# Altium footprint library стабилизаторы импульсные.PcbLib: 45 footprints (part 1 of 3)
Each footprint in its own frame and in the unit in brackets; x right, y up, seen from the top. Pads: shape width x height; smd on the part's side, far side on the other; paste and mask are expansions set on the pad; w line width, h text height; cw(c..) or ccw(c..) is an arc to the next point about the centre after c.
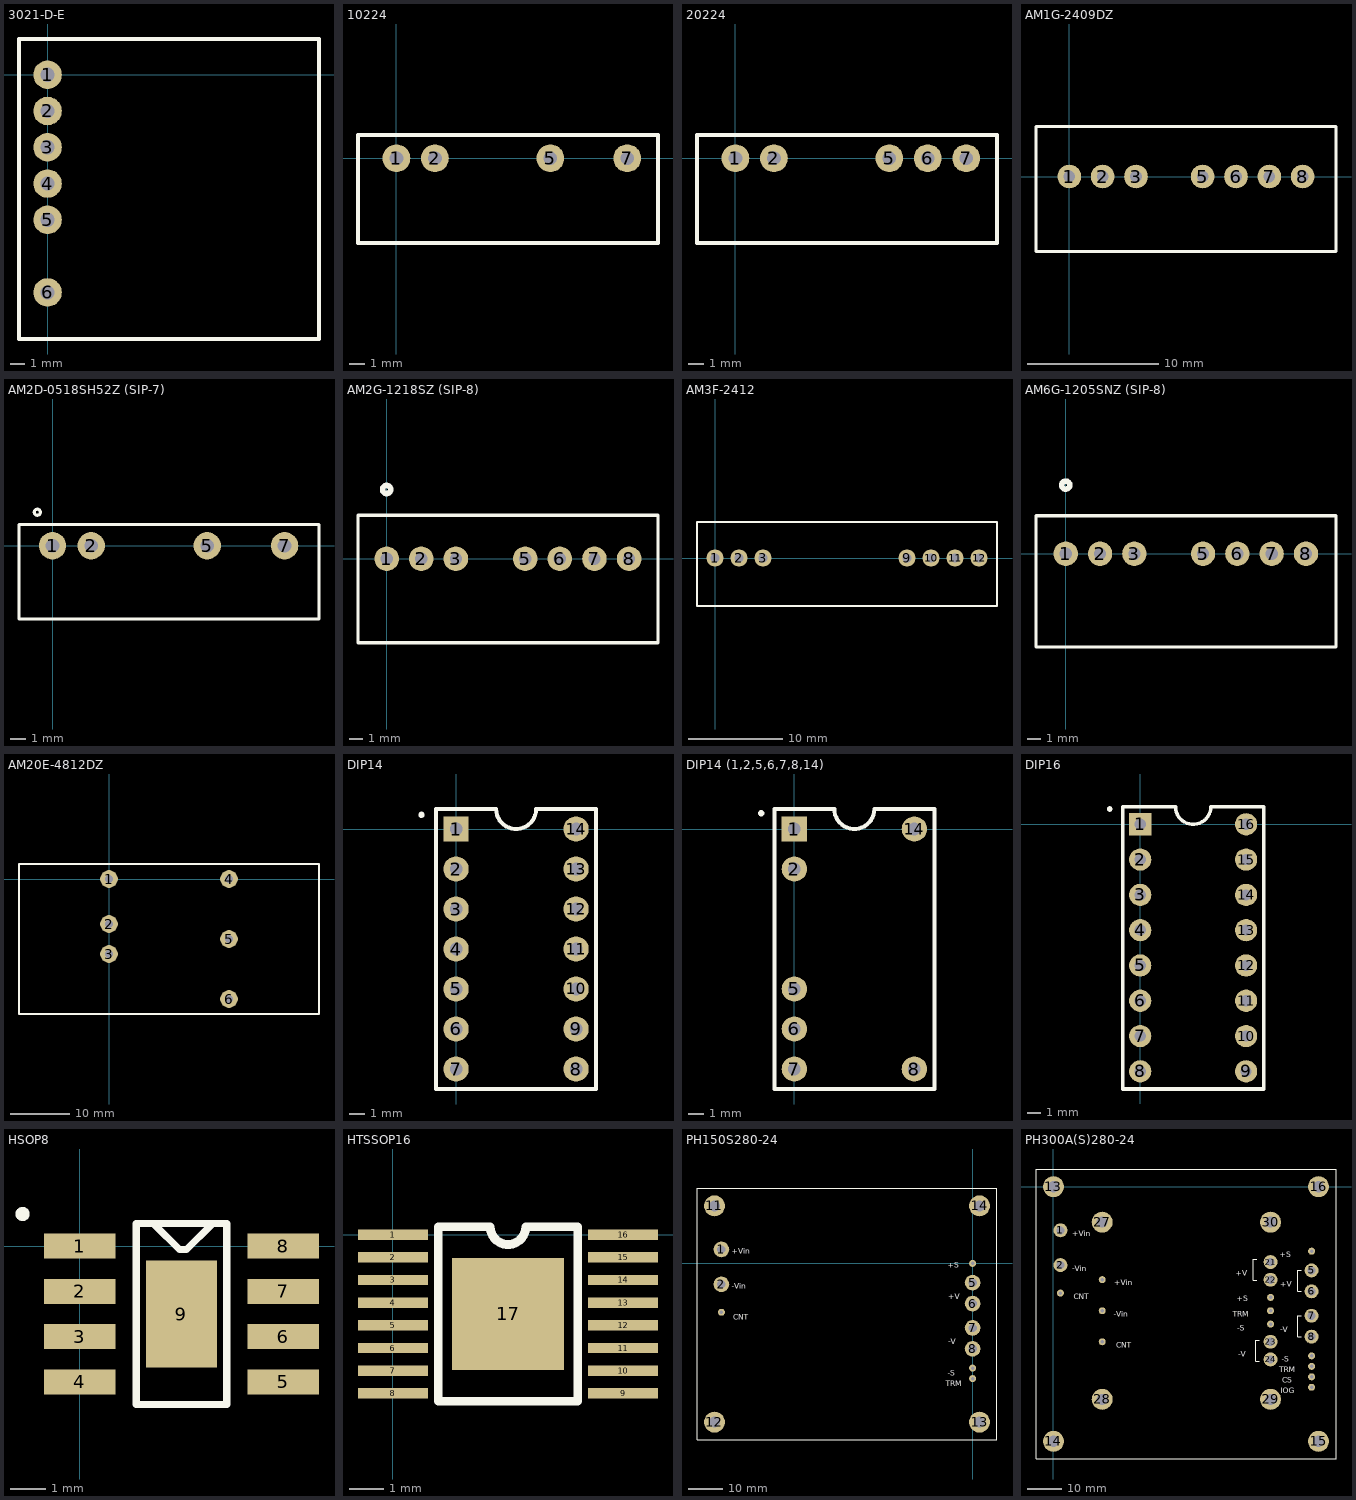
[diagram p0: the footprints below, top view; thin cyan lines are the x and y axes]

## 3021-D-E [mm]
pads (6):
  round 2 hole 1: 1(0,0) 2(0,-2.54) 3(0,-5.08) 4(0,-7.62) 5(0,-10.16) 6(0,-15.24)
Top Overlay:
  lines w0.254: -2,-18.5 -2,2.5 19,2.5 19,-18.5 -2,-18.5

## 10224 [mm]
pads (4):
  round 1.8 hole 0.9: 1(0,0) 2(2.5,0) 5(10,0) 7(15,0)
Top Overlay:
  lines w0.254: -2.5,-5.5 17,-5.5 17,1.5 -2.5,1.5 -2.5,-5.5

## 20224 [mm]
pads (5):
  round 1.8 hole 0.9: 1(0,0) 2(2.5,0) 5(10,0) 6(12.5,0) 7(15,0)
Top Overlay:
  lines w0.254: -2.5,-5.5 17,-5.5 17,1.5 -2.5,1.5 -2.5,-5.5

## AM1G-2409DZ [mm]
pads (7):
  round 1.8 hole 0.9: 1(0,0) 2(2.54,0) 3(5.08,0) 5(10.16,0) 6(12.7,0) 7(15.24,0) 8(17.78,0)
Top Overlay:
  lines w0.254: -2.54,-5.715 20.32,-5.715 20.32,3.81 -2.54,3.81 -2.54,-5.715

## AM2D-0518SH52Z (SIP-7) [mm]
height 10
pads (4):
  round 1.8 hole 0.9: 1(0,0) 2(2.54,0) 5(10.16,0) 7(15.24,0)
Top Overlay:
  circle w0.2: c-1,2.2 r0.2
  lines w0.2: -2.2,-4.8 17.5,-4.8 17.5,1.4 -2.2,1.4 -2.2,-4.8
3D body "User Library-SIP-4(7)_A6.SLDPRT": height 10.17, standoff -2.24, extent -1.975,-4.745 17.325,1.345

## AM2G-1218SZ (SIP-8) [mm]
height 11.1
pads (7):
  round 1.8 hole 0.9: 1(0,0) 2(2.54,0) 3(5.08,0) 5(10.16,0) 6(12.7,0) 7(15.24,0) 8(17.78,0)
Top Overlay:
  circle w0.4: c0,5.08 r0.3
  lines w0.254: -2.1,-6.15 19.9,-6.15 19.9,3.2 -2.1,3.2 -2.1,-6.15
3D body "tmr_6-2410wi.SLDPRT": height 4.1, standoff -11.1, extent -2,-6 19.8,3.2

## AM3F-2412 [mm]
pads (7):
  round 1.8 hole 0.9: 1(0,0) 2(2.54,0) 3(5.08,0) 9(20.32,0) 10(22.86,0) 11(25.4,0) 12(27.94,0)
Top Overlay:
  lines w0.254: -1.905,-5.08 -1.905,3.81 29.845,3.81 29.845,-5.08 -1.905,-5.08
3D body "User Library-SIP12_Proton.SLDPRT": height 16.75, standoff -3.25, extent -1.5,-2 29.5,2

## AM6G-1205SNZ (SIP-8) [mm]
height 12
pads (7):
  round 1.8 hole 0.9: 1(0,0) 2(2.54,0) 3(5.08,0) 5(10.16,0) 6(12.7,0) 7(15.24,0) 8(17.78,0)
Top Overlay:
  circle w0.4: c0,5.08 r0.3
  lines w0.254: -2.2,-6.9 -2.2,2.8 20,2.8 20,-6.9 -2.2,-6.9
3D body "tmr_3-4810wie.SLDPRT": height 11.1, standoff -3.2, extent -1.999,-6.7 19.799,2.598

## AM20E-4812DZ [mm]
pads (6):
  round 3 hole 1.3: 1(0,0) 2(0,-7.62) 3(0,-12.7) 4(20.32,0) 5(20.32,-10.16) 6(20.32,-20.32)
Top Overlay:
  lines w0.3: -15.24,-22.86 35.56,-22.86 35.56,2.54 -15.24,2.54 -15.24,-22.86

## DIP14 [mm]
pads (14):
  rect 1.6x1.6 hole 0.8: 1(0,0)
  round 1.6 hole 0.8: 2(0,-2.54) 3(0,-5.08) 4(0,-7.62) 5(0,-10.16) 6(0,-12.7) 7(0,-15.24) 8(7.62,-15.24) 9(7.62,-12.7) 10(7.62,-10.16) 11(7.62,-7.62) 12(7.62,-5.08) 13(7.62,-2.54) 14(7.62,0)
Top Overlay:
  circle w0.2: c-2.2,0.9 r0.1
  lines w0.254: -1.27,-16.51 -1.27,1.27 2.54,1.27 ccw(c3.81,1.27) 5.08,1.27 8.89,1.27 8.89,-16.51 -1.27,-16.51
3D body "User Library-DIP14_Pins Narrow_1.sldprt": height 2.58, standoff -3.81, extent -0.057,-15.99 1.143,-14.49
3D body "User Library-DIP14_Pins Narrow_1.sldprt": height 2.58, standoff -3.81, extent -0.057,-3.29 1.143,-1.79
3D body "User Library-DIP14_Pins Narrow_1.sldprt": height 2.58, standoff -3.81, extent -0.057,-0.75 1.143,0.75
3D body "User Library-DIP14_K_X_F6rper DIP14-DIP16_1.sldprt": height 4.57, standoff 0.38, extent 0.51,-17.335 7.11,2.095
3D body "User Library-DIP14_Pins Narrow_1.sldprt": height 2.58, standoff -3.81, extent -0.057,-5.83 1.143,-4.33
3D body "User Library-DIP14_Pins Narrow_1.sldprt": height 2.58, standoff -3.81, extent -0.057,-8.37 1.143,-6.87
3D body "User Library-DIP14_Pins Narrow_1.sldprt": height 2.58, standoff -3.81, extent -0.057,-10.91 1.143,-9.41
3D body "User Library-DIP14_Pins Narrow_1.sldprt": height 2.58, standoff -3.81, extent -0.057,-13.45 1.143,-11.95
3D body "User Library-DIP14_Pins Narrow_1.sldprt": height 2.58, standoff -3.81, extent 6.512,-0.738 7.712,0.762
3D body "User Library-DIP14_Pins Narrow_1.sldprt": height 2.58, standoff -3.81, extent 6.512,-3.278 7.712,-1.778
3D body "User Library-DIP14_Pins Narrow_1.sldprt": height 2.58, standoff -3.81, extent 6.512,-5.818 7.712,-4.318
3D body "User Library-DIP14_Pins Narrow_1.sldprt": height 2.58, standoff -3.81, extent 6.512,-8.358 7.712,-6.858
3D body "User Library-DIP14_Pins Narrow_1.sldprt": height 2.58, standoff -3.81, extent 6.512,-10.898 7.712,-9.398
3D body "User Library-DIP14_Pins Narrow_1.sldprt": height 2.58, standoff -3.81, extent 6.512,-13.438 7.712,-11.938
3D body "User Library-DIP14_Pins Narrow_1.sldprt": height 2.58, standoff -3.81, extent 6.512,-15.978 7.712,-14.478

## DIP14 (1,2,5,6,7,8,14) [mm] "DIP14, выводы 1,2,5,6,7,8,14"
pads (7):
  rect 1.6x1.6 hole 0.8: 1(0,0)
  round 1.6 hole 0.8: 2(0,-2.54) 5(0,-10.16) 6(0,-12.7) 7(0,-15.24) 8(7.62,-15.24) 14(7.62,0)
Top Overlay:
  circle w0.2: c-2.1,1 r0.1
  lines w0.254: -1.27,-16.51 -1.27,1.27 2.54,1.27 ccw(c3.81,1.27) 5.08,1.27 8.89,1.27 8.89,-16.51 -1.27,-16.51
3D body "User Library-DIP14_Pins Narrow_1.sldprt": height 2.58, standoff -3.81, extent -0.057,-15.99 1.143,-14.49
3D body "User Library-DIP14_Pins Narrow_1.sldprt": height 2.58, standoff -3.81, extent -0.057,-3.29 1.143,-1.79
3D body "User Library-DIP14_Pins Narrow_1.sldprt": height 2.58, standoff -3.81, extent -0.057,-0.75 1.143,0.75
3D body "User Library-DIP14_K_X_F6rper DIP14-DIP16_1.sldprt": height 4.57, standoff 0.38, extent 0.51,-17.335 7.11,2.095
3D body "User Library-DIP14_Pins Narrow_1.sldprt": height 2.58, standoff -3.81, extent -0.057,-10.91 1.143,-9.41
3D body "User Library-DIP14_Pins Narrow_1.sldprt": height 2.58, standoff -3.81, extent -0.057,-13.45 1.143,-11.95
3D body "User Library-DIP14_Pins Narrow_1.sldprt": height 2.58, standoff -3.81, extent 6.512,-0.738 7.712,0.762
3D body "User Library-DIP14_Pins Narrow_1.sldprt": height 2.58, standoff -3.81, extent 6.512,-15.978 7.712,-14.478

## DIP16 [mm]
pads (16):
  rect 1.6x1.6 hole 0.8: 1(0,0)
  round 1.6 hole 0.8: 2(0,-2.54) 3(0,-5.08) 4(0,-7.62) 5(0,-10.16) 6(0,-12.7) 7(0,-15.24) 8(0,-17.78) 9(7.62,-17.78) 10(7.62,-15.24) 11(7.62,-12.7) 12(7.62,-10.16) 13(7.62,-7.62) 14(7.62,-5.08) 15(7.62,-2.54) 16(7.62,0)
Top Overlay:
  circle w0.2: c-2.2,1.1 r0.1
  lines w0.254: -1.27,-19.05 8.89,-19.05 8.89,1.27 5.08,1.27 cw(c3.81,1.27) 2.54,1.27 -1.27,1.27 -1.27,-19.05

## HSOP8 [mm]
pads (9):
  rect 2x0.7 smd mask+0.025: 1(0,0) 2(0,-1.27) 3(0,-2.54) 4(0,-3.81) 5(5.715,-3.81) 6(5.715,-2.54) 7(5.715,-1.27) 8(5.715,0)
  rect 2x3 smd mask+0.025: 9(2.857,-1.905)
Top Overlay:
  circle w0.2: c-1.6,0.9 r0.1
  lines w0.2: 2.1,0.6 2.8,-0.1 3,-0.1 3.7,0.6 ; 1.587,-4.445 1.587,0.635 4.127,0.635 4.127,-4.445 1.587,-4.445
3D body "User Library-HSOP-8-DDA.SLDPRT": height 1.7, standoff 0, extent -0.139,-4.246 5.889,0.446

## HTSSOP16 [mm]
pads (17):
  rect 2x0.3 smd: 1(0,0) 2(0,-0.65) 3(0,-1.3) 4(0,-1.95) 5(0,-2.6) 6(0,-3.25) 7(0,-3.9) 8(0,-4.55) 9(6.6,-4.55) 10(6.6,-3.9) 11(6.6,-3.25) 12(6.6,-2.6) 13(6.6,-1.95) 14(6.6,-1.3) 15(6.6,-0.65) 16(6.6,0)
  rect 3.2x3.2 smd: 17(3.3,-2.275)
Top Overlay:
  lines w0.254: 1.3,-4.775 5.3,-4.775 5.3,0.225 3.808,0.225 cw(c3.3,0.225) 2.792,0.225 1.3,0.225 1.3,-4.775

## PH150S280-24 [mm]
pads (14):
  round 4.5 hole 2.4: 1(-72,4) 2(-72,-6) 5(0,-5.5) 6(0,-11.5) 7(0,-18.5) 8(0,-24.5)
  round 2 hole 1: 3(-72,-14) 4(0,0) 9(0,-30) 10(0,-33)
  round 6 hole 3.2: 11(-74,16.5) 12(-74,-45.5) 13(2,-45.5) 14(2,16.5)
Top Overlay:
  lines w0.3: -79,-50.5 7,-50.5 7,21.5 -79,21.5 -79,-50.5
  text "+S" at -7.111,-1.215 h1.59
  text "+V" at -7.032,-10.215 h1.59
  text "-V" at -7.032,-23.215 h1.59
  text "-S" at -7.111,-32.214 h1.59
  text "CNT" at -68.627,-16.214 h1.59
  text "TRM" at -7.707,-35.214 h1.59
  text "+Vin" at -69.104,2.786 h1.59
  text "-Vin" at -69.104,-7.214 h1.59

## PH300A(S)280-24 [mm]
pads (30):
  round 4 hole 2.3: 1(1.985,-12.488) 2(1.985,-22.49) 5(74,-23.99) 6(74,-29.991) 7(74,-36.993) 8(74,-42.994) 21(62.23,-21.59) 22(62.23,-26.67) 23(62.23,-44.45) 24(62.23,-49.53)
  round 2 hole 1: 3(1.985,-30.492) 4(74,-18.489) 9(74,-48.495) 10(74,-51.496) 11(74,-54.496) 12(74,-57.497) 17(13.97,-26.66) 18(13.97,-35.56) 19(13.97,-44.46) 20(62.23,-31.75) 25(62.23,-39.37) 26(62.23,-35.56)
  round 6 hole 3.2: 13(-0.015,0.015) 14(-0.015,-73) 15(76,-73) 16(76,0.015) 27(13.95,-10.16) 28(13.95,-60.96) 29(62.25,-60.96) 30(62.25,-10.16)
Top Overlay:
  lines w0.254: 58.304,-26.818 57.302,-26.818 57.302,-20.815 58.304,-20.815 ; 58.939,-49.978 57.937,-49.978 57.937,-43.976 58.939,-43.976 ; 71.004,-42.993 70.002,-42.993 70.002,-36.991 71.004,-36.991 ; 71.004,-29.993 70.002,-29.993 70.002,-23.99 71.004,-23.99 ; -5.016,-78.001 81.001,-78.001 81.001,5.016 -5.016,5.016 -5.016,-78.001
  text "+Vin" at 5.396,-14.215 h1.59
  text "-Vin" at 5.396,-24.215 h1.59
  text "+V" at 64.968,-28.714 h1.59
  text "TRM" at 51.458,-37.34 h1.59
  text "TRM" at 64.793,-53.215 h1.59
  text "IOG" at 65.19,-59.214 h1.59
  text "+Vin" at 17.461,-28.185 h1.59
  text "-Vin" at 17.216,-37.274 h1.59
  text "CNT" at 17.938,-46.184 h1.59
  text "+S" at 64.889,-20.215 h1.59
  text "+V" at 52.268,-25.539 h1.59
  text "+S" at 52.499,-32.829 h1.59
  text "-S" at 52.689,-41.324 h1.59
  text "-V" at 64.968,-41.714 h1.59
  text "-V" at 52.903,-48.699 h1.59
  text "-S" at 65.389,-50.214 h1.59
  text "CS" at 65.587,-56.215 h1.59
  text "CNT" at 5.873,-32.214 h1.59